# Altium schematic symbol library ONP_VS.SchLib: 1 symbol
Pins are listed as number, name and electrical type; pins without a type are passive.

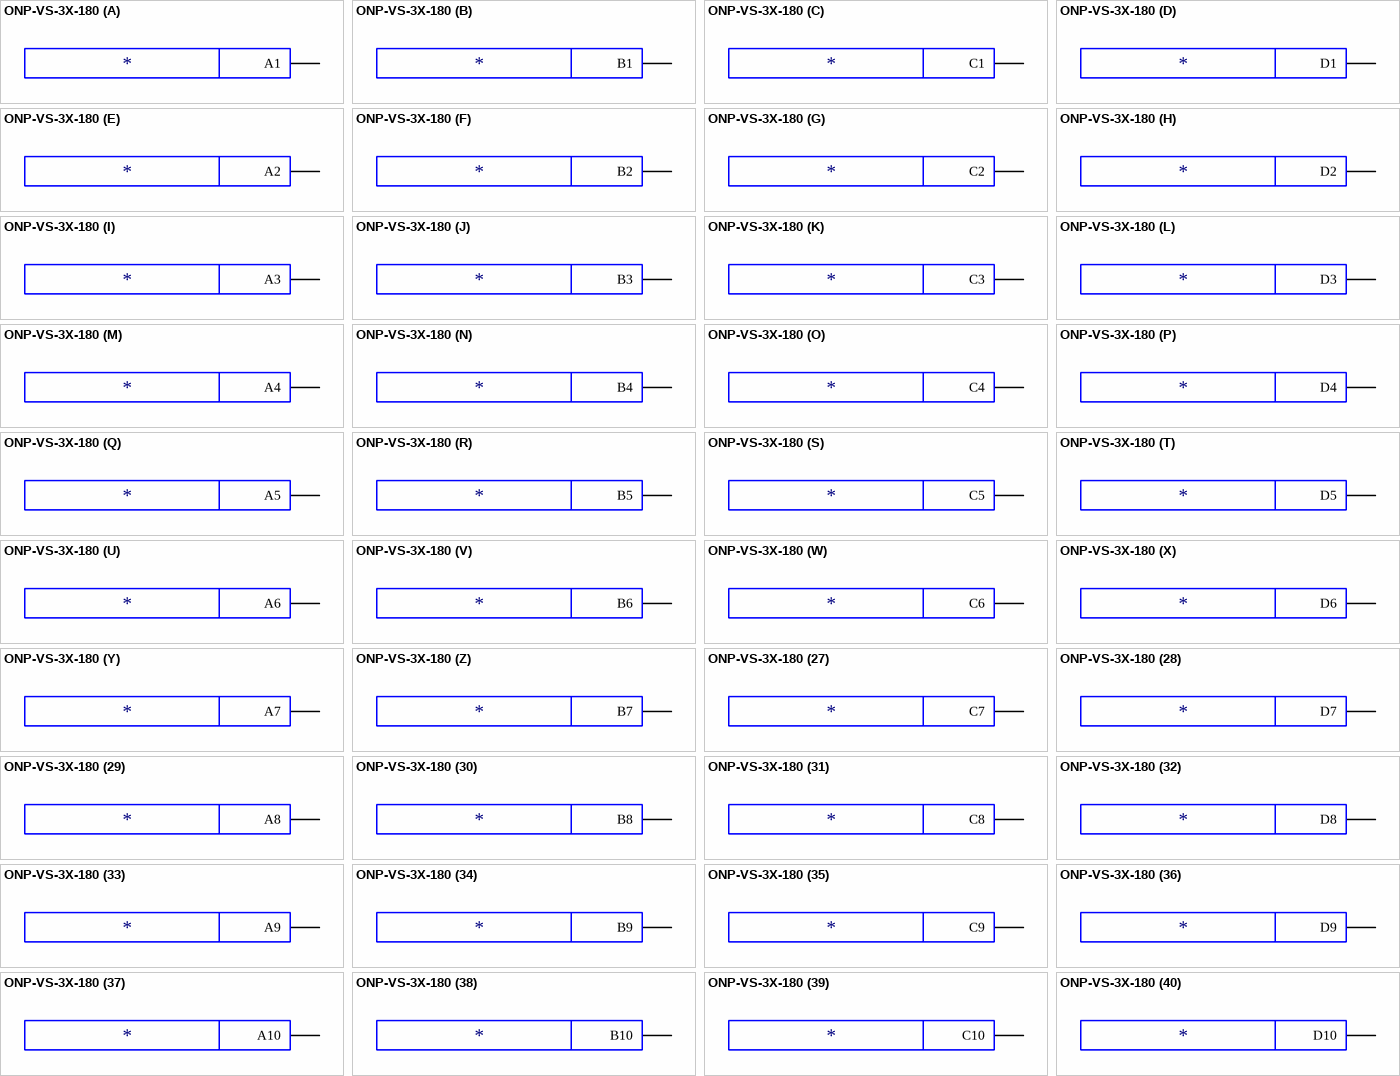
[diagram p0: symbol ONP-VS-3X-180]

## ONP-VS-3X-180
designator X?
ÎÍÏ-ÂÑ-3X-180; NetName: *
part A pins: A1
part B pins: B1
part C pins: C1
part D pins: D1
part E pins: A2
part F pins: B2
part G pins: C2
part H pins: D2
part I pins: A3
part J pins: B3
part K pins: C3
part L pins: D3
part M pins: A4
part N pins: B4
part O pins: C4
part P pins: D4
part Q pins: A5
part R pins: B5
part S pins: C5
part T pins: D5
part U pins: A6
part V pins: B6
part W pins: C6
part X pins: D6
part Y pins: A7
part Z pins: B7
part 27 pins: C7
part 28 pins: D7
part 29 pins: A8
part 30 pins: B8
part 31 pins: C8
part 32 pins: D8
part 33 pins: A9
part 34 pins: B9
part 35 pins: C9
part 36 pins: D9
part 37 pins: A10
part 38 pins: B10
part 39 pins: C10
part 40 pins: D10
part 41 pins: A11
part 42 pins: B11
part 43 pins: C11
part 44 pins: D11
part 45 pins: A12
part 46 pins: B12
part 47 pins: C12
part 48 pins: D12
part 49 pins: A13
part 50 pins: B13
part 51 pins: C13
part 52 pins: D13
part 53 pins: A14
part 54 pins: B14
part 55 pins: C14
part 56 pins: D14
part 57 pins: A15
part 58 pins: B15
part 59 pins: C15
part 60 pins: D15
part 61 pins: A16
part 62 pins: B16
part 63 pins: C16
part 64 pins: D16
part 65 pins: A17
part 66 pins: B17
part 67 pins: C17
part 68 pins: D17
part 69 pins: A18
part 70 pins: B18
part 71 pins: C18
part 72 pins: D18
part 73 pins: A19
part 74 pins: B19
part 75 pins: C19
part 76 pins: D19
part 77 pins: A20
part 78 pins: B20
part 79 pins: C20
part 80 pins: D20
part 81 pins: A21
part 82 pins: B21
part 83 pins: C21
part 84 pins: D21
part 85 pins: A22
part 86 pins: B22
part 87 pins: C22
part 88 pins: D22
part 89 pins: A23
part 90 pins: B23
part 91 pins: C23
part 92 pins: D23
part 93 pins: A24
part 94 pins: B24
part 95 pins: C24
part 96 pins: D24
part 97 pins: A25
part 98 pins: B25
part 99 pins: C25
part 100 pins: D25
part 101 pins: A26
part 102 pins: B26
part 103 pins: C26
part 104 pins: D26
part 105 pins: A27
part 106 pins: B27
part 107 pins: A C27
part 108 pins: D27
part 109 pins: A28
part 110 pins: B28
part 111 pins: C28
part 112 pins: D28
part 113 pins: A29
part 114 pins: B29
part 115 pins: C29
part 116 pins: D29
part 117 pins: A30
part 118 pins: B30
part 119 pins: C30
part 120 pins: D30
part 121 pins: A31
part 122 pins: B31
part 123 pins: C31
part 124 pins: D31
part 125 pins: A32
part 126 pins: B32
part 127 pins: C32
part 128 pins: D32
part 129 pins: A33
part 130 pins: B33
part 131 pins: C33
part 132 pins: D33
part 133 pins: A34
part 134 pins: A B34
part 135 pins: C34
part 136 pins: D34
part 137 pins: A35
part 138 pins: B35
part 139 pins: C35
part 140 pins: D35
part 141 pins: A36
part 142 pins: B36
part 143 pins: C36
part 144 pins: D36
part 145 pins: A37
part 146 pins: B37
part 147 pins: C37
part 148 pins: D37
part 149 pins: A38
part 150 pins: B38
part 151 pins: C38
part 152 pins: D38
part 153 pins: A39
part 154 pins: B39
part 155 pins: C39
part 156 pins: D39
part 157 pins: A40
part 158 pins: B40
part 159 pins: C40
part 160 pins: D40
part 161 pins: A41
part 162 pins: B41
part 163 pins: C41
part 164 pins: D41
part 165 pins: A42
part 166 pins: B42
part 167 pins: C42
part 168 pins: D42
part 169 pins: A43
part 170 pins: B43
part 171 pins: C43
part 172 pins: D43
part 173 pins: A44
part 174 pins: B44
part 175 pins: C44
part 176 pins: D44
part 177 pins: A45
part 178 pins: B45
part 179 pins: C45
part 180 pins: D45
1 alternate drawing of the same symbol